# EAGLE library part MSP430FR4133IPM (library MSP430FR4133IPM)
Texas Instruments MSP430FR4133IPM, 16bit MSP430 Microcontroller, 16MHz, 512 B Flash, 64-Pin LQFP Source: Datasheet <http://uk.rs-online.com/web/p/products/1629844>
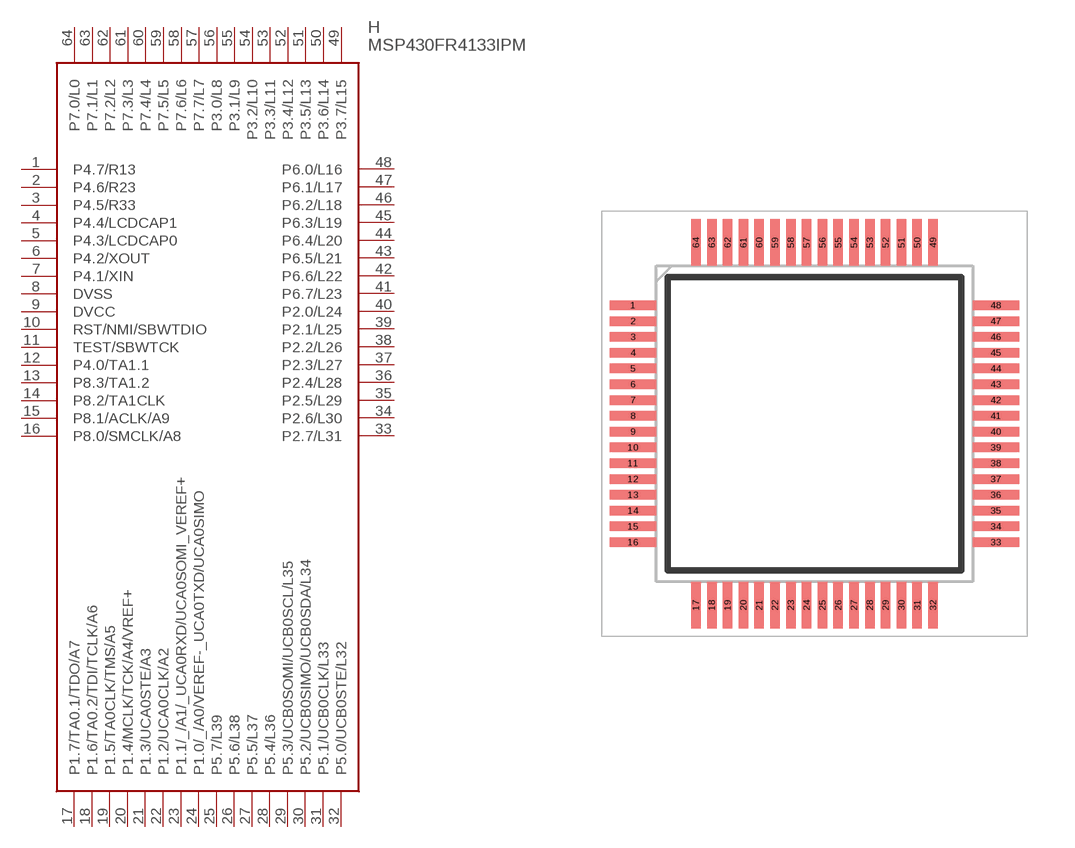
[diagram p0: symbol with the pads of QFP50P1200X1200X160-64N; footprint QFP50P1200X1200X160-64N]

Designator prefix H

## MSP430FR4133IPM (Description: Texas Instruments MSP430FR4133IPM, 16bit MSP430 Microcontroller, 16MHz, 512 B Flash, 64-Pin LQFP; Height: 1.6mm; Manufacturer_Name: Texas Instruments; Manufacturer_Part_Number: MSP430FR4133IPM; RS_Part_Number: 1629844)  [QFP50P1200X1200X160-64N]
1  P4.7/R13
2  P4.6/R23
3  P4.5/R33
4  P4.4/LCDCAP1
5  P4.3/LCDCAP0
6  P4.2/XOUT
7  P4.1/XIN
8  DVSS
9  DVCC
10  RST/NMI/SBWTDIO
11  TEST/SBWTCK
12  P4.0/TA1.1
13  P8.3/TA1.2
14  P8.2/TA1CLK
15  P8.1/ACLK/A9
16  P8.0/SMCLK/A8
17  P1.7/TA0.1/TDO/A7
18  P1.6/TA0.2/TDI/TCLK/A6  pwr
19  P1.5/TA0CLK/TMS/A5
20  P1.4/MCLK/TCK/A4/VREF+
21  P1.3/UCA0STE/A3
22  P1.2/UCA0CLK/A2
23  P1.1/_/A1/_UCA0RXD/UCA0SOMI_VEREF+
24  P1.0/_/A0/VEREF-_UCA0TXD/UCA0SIMO
25  P5.7/L39
26  P5.6/L38
27  P5.5/L37
28  P5.4/L36
29  P5.3/UCB0SOMI/UCB0SCL/L35
30  P5.2/UCB0SIMO/UCB0SDA/L34
31  P5.1/UCB0CLK/L33
32  P5.0/UCB0STE/L32
33  P2.7/L31
34  P2.6/L30
35  P2.5/L29
36  P2.4/L28
37  P2.3/L27
38  P2.2/L26
39  P2.1/L25
40  P2.0/L24
41  P6.7/L23
42  P6.6/L22
43  P6.5/L21
44  P6.4/L20
45  P6.3/L19
46  P6.2/L18
47  P6.1/L17
48  P6.0/L16
49  P3.7/L15
50  P3.6/L14
51  P3.5/L13
52  P3.4/L12
53  P3.3/L11
54  P3.2/L10
55  P3.1/L9
56  P3.0/L8
57  P7.7/L7
58  P7.6/L6
59  P7.5/L5
60  P7.4/L4
61  P7.3/L3
62  P7.2/L2
63  P7.1/L1
64  P7.0/L0

## Footprint QFP50P1200X1200X160-64N (pad centres in mm)
PM (S-PQFP-G64)
smd 1.475 x 0.3: 1 -5.738,3.75; 2 -5.738,3.25; 3 -5.738,2.75; 4 -5.738,2.25; 5 -5.738,1.75; 6 -5.738,1.25; 7 -5.738,0.75; 8 -5.738,0.25; 9 -5.738,-0.25; 10 -5.738,-0.75; 11 -5.738,-1.25; 12 -5.738,-1.75; 13 -5.738,-2.25; 14 -5.738,-2.75; 15 -5.738,-3.25; 16 -5.738,-3.75; 33 5.738,-3.75; 34 5.738,-3.25; 35 5.738,-2.75; 36 5.738,-2.25; 37 5.738,-1.75; 38 5.738,-1.25; 39 5.738,-0.75; 40 5.738,-0.25; 41 5.738,0.25; 42 5.738,0.75; 43 5.738,1.25; 44 5.738,1.75; 45 5.738,2.25; 46 5.738,2.75; 47 5.738,3.25; 48 5.738,3.75
smd 0.3 x 1.475: 17 -3.75,-5.738; 18 -3.25,-5.738; 19 -2.75,-5.738; 20 -2.25,-5.738; 21 -1.75,-5.738; 22 -1.25,-5.738; 23 -0.75,-5.738; 24 -0.25,-5.738; 25 0.25,-5.738; 26 0.75,-5.738; 27 1.25,-5.738; 28 1.75,-5.738; 29 2.25,-5.738; 30 2.75,-5.738; 31 3.25,-5.738; 32 3.75,-5.738; 49 3.75,5.738; 50 3.25,5.738; 51 2.75,5.738; 52 2.25,5.738; 53 1.75,5.738; 54 1.25,5.738; 55 0.75,5.738; 56 0.25,5.738; 57 -0.25,5.738; 58 -0.75,5.738; 59 -1.25,5.738; 60 -1.75,5.738; 61 -2.25,5.738; 62 -2.75,5.738; 63 -3.25,5.738; 64 -3.75,5.738